# Altium schematic symbol library PIC(8)pinbasic.SchLib: 1 symbol
Pins are listed as number, name and electrical type; pins without a type are passive.

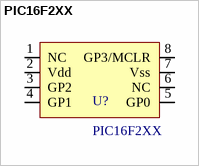
[diagram p0: symbol PIC16F2XX]

## PIC16F2XX
designator U?
footprint PIC10F220
pins: 1 NC, 2 Vdd, 3 GP2, 4 GP1, 5 GP0, 6 NC, 7 Vss, 8 GP3/MCLR